# EAGLE library part 662010235922 (library Wuerth_Elektronik_eiCan_08_Micro_Power_Connectors)
WR-MPC3 3.00mm Male Dual Row SMT Vertical Header with Through Hole Retention Clip, 10 Pins
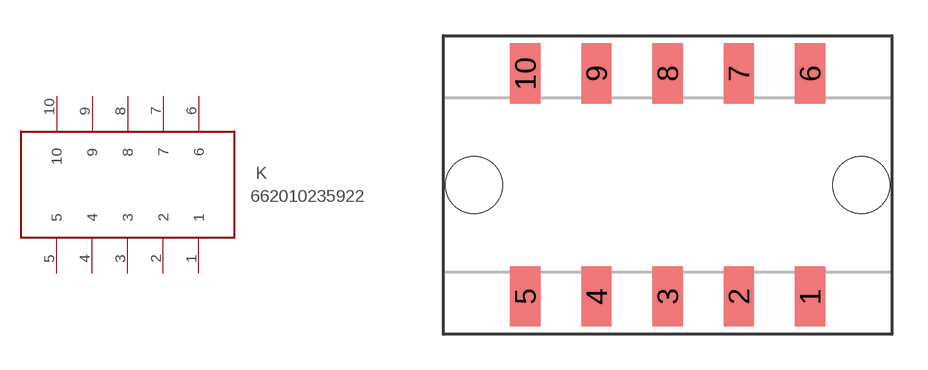
[diagram p12: symbol with the pads of 662010235922; footprint 662010235922]

Designator prefix K

## 662010235922  [662010235922]
1  1
2  2
3  3
4  4
5  5
6  6
7  7
8  8
9  9
10  10

## Footprint 662010235922 (pad centres in mm)
WR-MPC3 3.00mm Male Dual Row SMT Vertical Header with Through Hole Retention Clip, 10 Pins
smd 1.27 x 2.54: 1 0,-4.7; 2 -3,-4.7; 3 -6,-4.7; 4 -9,-4.7; 5 -12,-4.7; 6 0,4.7; 7 -3,4.7; 8 -6,4.7; 9 -9,4.7; 10 -12,4.7
hole 2.41 at 2.16,0
hole 2.41 at -14.16,0